# EAGLE library part EFM32_DK_PROTOBOARD (library efm32_protoboard)
Protoboard skeleton for the EFM32 DK3550/3650/3750 development kits.
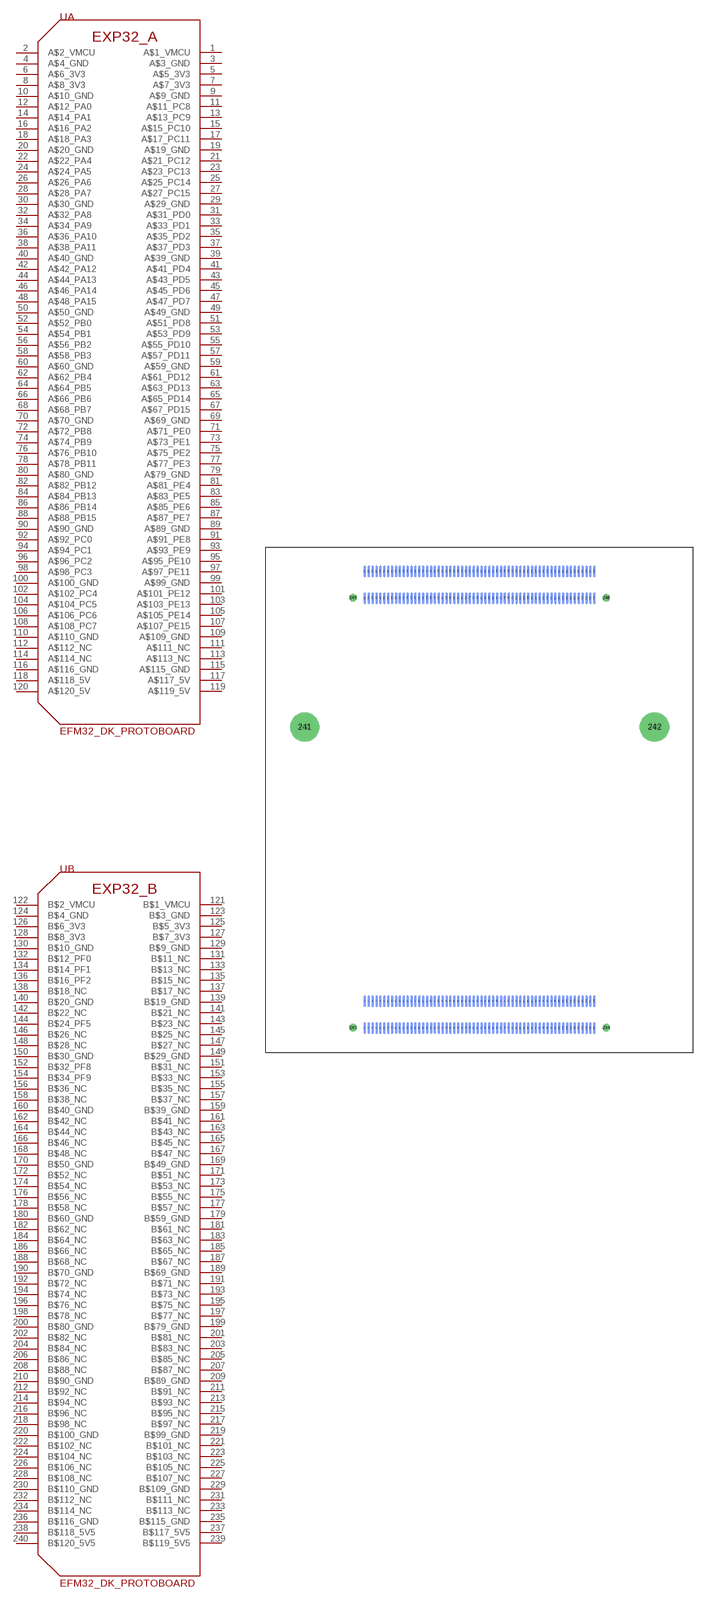
[diagram p0: symbol with the pads of EFM32_DK_PROTOBOARD; footprint EFM32_DK_PROTOBOARD]

Designator prefix U; gates A=EFM32_DK_PROTOBOARD_A B=EFM32_DK_PROTOBOARD_B

## EFM32_DK_PROTOBOARD  [EFM32_DK_PROTOBOARD]
1  A:A$1_VMCU
2  A:A$2_VMCU
3  A:A$3_GND
4  A:A$4_GND
5  A:A$5_3V3
6  A:A$6_3V3
7  A:A$7_3V3
8  A:A$8_3V3
9  A:A$9_GND
10  A:A$10_GND
11  A:A$11_PC8
12  A:A$12_PA0
13  A:A$13_PC9
14  A:A$14_PA1
15  A:A$15_PC10
16  A:A$16_PA2
17  A:A$17_PC11
18  A:A$18_PA3
19  A:A$19_GND
20  A:A$20_GND
21  A:A$21_PC12
22  A:A$22_PA4
23  A:A$23_PC13
24  A:A$24_PA5
25  A:A$25_PC14
26  A:A$26_PA6
27  A:A$27_PC15
28  A:A$28_PA7
29  A:A$29_GND
30  A:A$30_GND
31  A:A$31_PD0
32  A:A$32_PA8
33  A:A$33_PD1
34  A:A$34_PA9
35  A:A$35_PD2
36  A:A$36_PA10
37  A:A$37_PD3
38  A:A$38_PA11
39  A:A$39_GND
40  A:A$40_GND
41  A:A$41_PD4
42  A:A$42_PA12
43  A:A$43_PD5
44  A:A$44_PA13
45  A:A$45_PD6
46  A:A$46_PA14
47  A:A$47_PD7
48  A:A$48_PA15
49  A:A$49_GND
50  A:A$50_GND
51  A:A$51_PD8
52  A:A$52_PB0
53  A:A$53_PD9
54  A:A$54_PB1
55  A:A$55_PD10
56  A:A$56_PB2
57  A:A$57_PD11
58  A:A$58_PB3
59  A:A$59_GND
60  A:A$60_GND
61  A:A$61_PD12
62  A:A$62_PB4
63  A:A$63_PD13
64  A:A$64_PB5
65  A:A$65_PD14
66  A:A$66_PB6
67  A:A$67_PD15
68  A:A$68_PB7
69  A:A$69_GND
70  A:A$70_GND
71  A:A$71_PE0
72  A:A$72_PB8
73  A:A$73_PE1
74  A:A$74_PB9
75  A:A$75_PE2
76  A:A$76_PB10
77  A:A$77_PE3
78  A:A$78_PB11
79  A:A$79_GND
80  A:A$80_GND
81  A:A$81_PE4
82  A:A$82_PB12
83  A:A$83_PE5
84  A:A$84_PB13
85  A:A$85_PE6
86  A:A$86_PB14
87  A:A$87_PE7
88  A:A$88_PB15
89  A:A$89_GND
90  A:A$90_GND
91  A:A$91_PE8
92  A:A$92_PC0
93  A:A$93_PE9
94  A:A$94_PC1
95  A:A$95_PE10
96  A:A$96_PC2
97  A:A$97_PE11
98  A:A$98_PC3
99  A:A$99_GND
100  A:A$100_GND
101  A:A$101_PE12
102  A:A$102_PC4
103  A:A$103_PE13
104  A:A$104_PC5
105  A:A$105_PE14
106  A:A$106_PC6
107  A:A$107_PE15
108  A:A$108_PC7
109  A:A$109_GND
110  A:A$110_GND
111  A:A$111_NC
112  A:A$112_NC
113  A:A$113_NC
114  A:A$114_NC
115  A:A$115_GND
116  A:A$116_GND
117  A:A$117_5V
118  A:A$118_5V
119  A:A$119_5V
120  A:A$120_5V
121  B:B$1_VMCU
122  B:B$2_VMCU
123  B:B$3_GND
124  B:B$4_GND
125  B:B$5_3V3
126  B:B$6_3V3
127  B:B$7_3V3
128  B:B$8_3V3
129  B:B$9_GND
130  B:B$10_GND
131  B:B$11_NC
132  B:B$12_PF0
133  B:B$13_NC
134  B:B$14_PF1
135  B:B$15_NC
136  B:B$16_PF2
137  B:B$17_NC
138  B:B$18_NC
139  B:B$19_GND
140  B:B$20_GND
141  B:B$21_NC
142  B:B$22_NC
143  B:B$23_NC
144  B:B$24_PF5
145  B:B$25_NC
146  B:B$26_NC
147  B:B$27_NC
148  B:B$28_NC
149  B:B$29_GND
150  B:B$30_GND
151  B:B$31_NC
152  B:B$32_PF8
153  B:B$33_NC
154  B:B$34_PF9
155  B:B$35_NC
156  B:B$36_NC
157  B:B$37_NC
158  B:B$38_NC
159  B:B$39_GND
160  B:B$40_GND
161  B:B$41_NC
162  B:B$42_NC
163  B:B$43_NC
164  B:B$44_NC
165  B:B$45_NC
166  B:B$46_NC
167  B:B$47_NC
168  B:B$48_NC
169  B:B$49_GND
170  B:B$50_GND
171  B:B$51_NC
172  B:B$52_NC
173  B:B$53_NC
174  B:B$54_NC
175  B:B$55_NC
176  B:B$56_NC
177  B:B$57_NC
178  B:B$58_NC
179  B:B$59_GND
180  B:B$60_GND
181  B:B$61_NC
182  B:B$62_NC
183  B:B$63_NC
184  B:B$64_NC
185  B:B$65_NC
186  B:B$66_NC
187  B:B$67_NC
188  B:B$68_NC
189  B:B$69_GND
190  B:B$70_GND
191  B:B$71_NC
192  B:B$72_NC
193  B:B$73_NC
194  B:B$74_NC
195  B:B$75_NC
196  B:B$76_NC
197  B:B$77_NC
198  B:B$78_NC
199  B:B$79_GND
200  B:B$80_GND
201  B:B$81_NC
202  B:B$82_NC
203  B:B$83_NC
204  B:B$84_NC
205  B:B$85_NC
206  B:B$86_NC
207  B:B$87_NC
208  B:B$88_NC
209  B:B$89_GND
210  B:B$90_GND
211  B:B$91_NC
212  B:B$92_NC
213  B:B$93_NC
214  B:B$94_NC
215  B:B$95_NC
216  B:B$96_NC
217  B:B$97_NC
218  B:B$98_NC
219  B:B$99_GND
220  B:B$100_GND
221  B:B$101_NC
222  B:B$102_NC
223  B:B$103_NC
224  B:B$104_NC
225  B:B$105_NC
226  B:B$106_NC
227  B:B$107_NC
228  B:B$108_NC
229  B:B$109_GND
230  B:B$110_GND
231  B:B$111_NC
232  B:B$112_NC
233  B:B$113_NC
234  B:B$114_NC
235  B:B$115_GND
236  B:B$116_GND
237  B:B$117_5V5
238  B:B$118_5V5
239  B:B$119_5V5
240  B:B$120_5V5

## Footprint EFM32_DK_PROTOBOARD (pad centres in mm)
Protoboard skeleton footprint for the Energy Micro EFM32 DK 3550/3650/3750 development kit protoboard connectors.
smd 0.42 x 2.5 bottom: 1 -23.6,-41.5; 2 -23.6,-47; 3 -22.8,-41.5; 4 -22.8,-47; 5 -22,-41.5; 6 -22,-47; 7 -21.2,-41.5; 8 -21.2,-47; 9 -20.4,-41.5; 10 -20.4,-47; 11 -19.6,-41.5; 12 -19.6,-47; 13 -18.8,-41.5; 14 -18.8,-47; 15 -18,-41.5; 16 -18,-47; 17 -17.2,-41.5; 18 -17.2,-47; 19 -16.4,-41.5; 20 -16.4,-47; 21 -15.6,-41.5; 22 -15.6,-47; 23 -14.8,-41.5; 24 -14.8,-47; 25 -14,-41.5; 26 -14,-47; 27 -13.2,-41.5; 28 -13.2,-47; 29 -12.4,-41.5; 30 -12.4,-47; 31 -11.6,-41.5; 32 -11.6,-47; 33 -10.8,-41.5; 34 -10.8,-47; 35 -10,-41.5; 36 -10,-47; 37 -9.2,-41.5; 38 -9.2,-47; 39 -8.4,-41.5; 40 -8.4,-47; 41 -7.6,-41.5; 42 -7.6,-47; 43 -6.8,-41.5; 44 -6.8,-47; 45 -6,-41.5; 46 -6,-47; 47 -5.2,-41.5; 48 -5.2,-47; 49 -4.4,-41.5; 50 -4.4,-47; 51 -3.6,-41.5; 52 -3.6,-47; 53 -2.8,-41.5; 54 -2.8,-47; 55 -2,-41.5; 56 -2,-47; 57 -1.2,-41.5; 58 -1.2,-47; 59 -0.4,-41.5; 60 -0.4,-47; 61 0.4,-41.5; 62 0.4,-47; 63 1.2,-41.5; 64 1.2,-47; 65 2,-41.5; 66 2,-47; 67 2.8,-41.5; 68 2.8,-47; 69 3.6,-41.5; 70 3.6,-47; 71 4.4,-41.5; 72 4.4,-47; 73 5.2,-41.5; 74 5.2,-47; 75 6,-41.5; 76 6,-47; 77 6.8,-41.5; 78 6.8,-47; 79 7.6,-41.5; 80 7.6,-47; 81 8.4,-41.5; 82 8.4,-47; 83 9.2,-41.5; 84 9.2,-47; 85 10,-41.5; 86 10,-47; 87 10.8,-41.5; 88 10.8,-47; 89 11.6,-41.5; 90 11.6,-47; 91 12.4,-41.5; 92 12.4,-47; 93 13.2,-41.5; 94 13.2,-47; 95 14,-41.5; 96 14,-47; 97 14.8,-41.5; 98 14.8,-47; 99 15.6,-41.5; 100 15.6,-47; 101 16.4,-41.5; 102 16.4,-47; 103 17.2,-41.5; 104 17.2,-47; 105 18,-41.5; 106 18,-47; 107 18.8,-41.5; 108 18.8,-47; 109 19.6,-41.5; 110 19.6,-47; 111 20.4,-41.5; 112 20.4,-47; 113 21.2,-41.5; 114 21.2,-47; 115 22,-41.5; 116 22,-47; 117 22.8,-41.5; 118 22.8,-47; 119 23.6,-41.5; 120 23.6,-47; 121 -23.6,47; 122 -23.6,41.5; 123 -22.8,47; 124 -22.8,41.5; 125 -22,47; 126 -22,41.5; 127 -21.2,47; 128 -21.2,41.5; 129 -20.4,47; 130 -20.4,41.5; 131 -19.6,47; 132 -19.6,41.5; 133 -18.8,47; 134 -18.8,41.5; 135 -18,47; 136 -18,41.5; 137 -17.2,47; 138 -17.2,41.5; 139 -16.4,47; 140 -16.4,41.5; 141 -15.6,47; 142 -15.6,41.5; 143 -14.8,47; 144 -14.8,41.5; 145 -14,47; 146 -14,41.5; 147 -13.2,47; 148 -13.2,41.5; 149 -12.4,47; 150 -12.4,41.5; 151 -11.6,47; 152 -11.6,41.5; 153 -10.8,47; 154 -10.8,41.5; 155 -10,47; 156 -10,41.5; 157 -9.2,47; 158 -9.2,41.5; 159 -8.4,47; 160 -8.4,41.5; 161 -7.6,47; 162 -7.6,41.5; 163 -6.8,47; 164 -6.8,41.5; 165 -6,47; 166 -6,41.5; 167 -5.2,47; 168 -5.2,41.5; 169 -4.4,47; 170 -4.4,41.5; 171 -3.6,47; 172 -3.6,41.5; 173 -2.8,47; 174 -2.8,41.5; 175 -2,47; 176 -2,41.5; 177 -1.2,47; 178 -1.2,41.5; 179 -0.4,47; 180 -0.4,41.5; 181 0.4,47; 182 0.4,41.5; 183 1.2,47; 184 1.2,41.5; 185 2,47; 186 2,41.5; 187 2.8,47; 188 2.8,41.5; 189 3.6,47; 190 3.6,41.5; 191 4.4,47; 192 4.4,41.5; 193 5.2,47; 194 5.2,41.5; 195 6,47; 196 6,41.5; 197 6.8,47; 198 6.8,41.5; 199 7.6,47; 200 7.6,41.5; 201 8.4,47; 202 8.4,41.5; 203 9.2,47; 204 9.2,41.5; 205 10,47; 206 10,41.5; 207 10.8,47; 208 10.8,41.5; 209 11.6,47; 210 11.6,41.5; 211 12.4,47; 212 12.4,41.5; 213 13.2,47; 214 13.2,41.5; 215 14,47; 216 14,41.5; 217 14.8,47; 218 14.8,41.5; 219 15.6,47; 220 15.6,41.5; 221 16.4,47; 222 16.4,41.5; 223 17.2,47; 224 17.2,41.5; 225 18,47; 226 18,41.5; 227 18.8,47; 228 18.8,41.5; 229 19.6,47; 230 19.6,41.5; 231 20.4,47; 232 20.4,41.5; 233 21.2,47; 234 21.2,41.5; 235 22,47; 236 22,41.5; 237 22.8,47; 238 22.8,41.5; 239 23.6,47; 240 23.6,41.5
drill 3.2 pad 6: 241 -36,14.953; 242 36,14.953
drill 1.016 pad 1: 243 -26.064,-46.917; 244 26.064,-46.917; 245 -26.064,41.583; 246 26.064,41.583